# Altium footprint library SOT-23.PcbLib: 1 footprints
Each footprint in its own frame and in the unit in brackets; x right, y up, seen from the top. Pads: shape width x height; smd on the part's side, far side on the other; paste and mask are expansions set on the pad; w line width, h text height; cw(c..) or ccw(c..) is an arc to the next point about the centre after c.
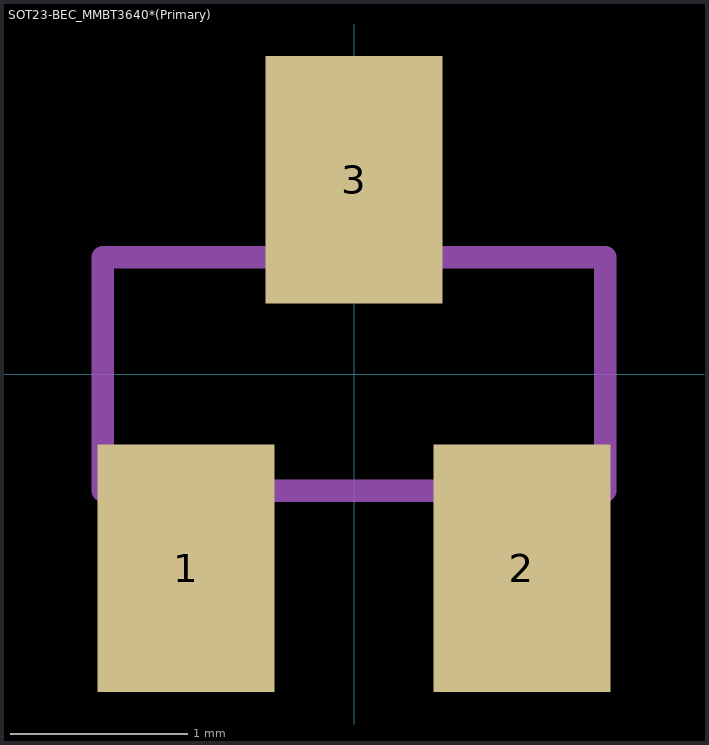
[diagram p0: the footprint, top view; thin cyan lines are the x and y axes]

## SOT23-BEC_MMBT3640*(Primary) [mm]
pads (3):
  rect 1x1.4 smd: 1(-0.95,-1.1) 2(0.95,-1.1) 3(0,1.1)
Mechanical 1:
  region: -1.171,-0.711 -0.711,-0.711 -0.711,-1.298 -1.171,-1.298
  region: 0.712,-0.711 1.168,-0.711 1.168,-1.297 0.712,-1.297
  region: -0.229,1.295 0.229,1.295 0.229,0.713 -0.229,0.713
  lines w0.127: -1.422,-0.66 -1.422,0.66 1.422,0.66 1.422,-0.66 -1.422,-0.66